# Altium footprint library PN-13101.PcbLib: 1 footprints
Each footprint in its own frame and in the unit in brackets; x right, y up, seen from the top. Pads: shape width x height; smd on the part's side, far side on the other; paste and mask are expansions set on the pad; w line width, h text height; cw(c..) or ccw(c..) is an arc to the next point about the centre after c.
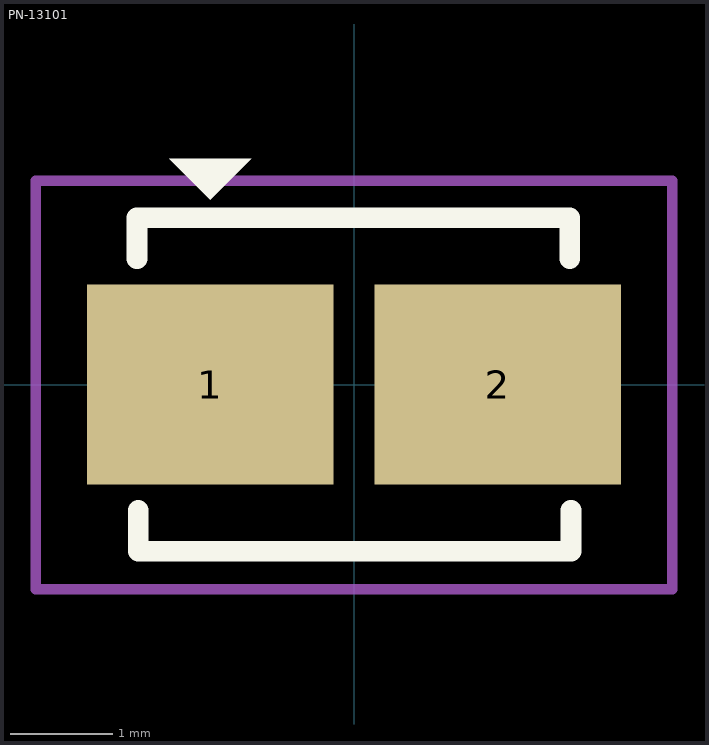
[diagram p0: the footprint, top view; thin cyan lines are the x and y axes]

## PN-13101 [mm]
height 6.35
pads (2):
  rect 2.4x1.95 smd paste-0.975 mask+0.125: 1(-1.4,0) 2(1.4,0)
Top Overlay:
  region: -1.8,2.2 -1,2.2 -1.4,1.8
  lines w0.2: -2.114,1.225 -2.114,1.625 2.1,1.625 2.1,1.225 ; -2.1,-1.225 -2.1,-1.625 2.114,-1.625 2.114,-1.225
Top Paste:
  rectangle: -1.86,-0.675 -0.2,0.675
  rectangle: 0.2,-0.675 1.86,0.675
Top Courtyard:
  lines w0.1: -3.1,-1.992 -3.1,1.988 3.1,1.988 3.1,-1.992 -1.541,-1.992 -3.1,-1.992
3D body: height 6.35, standoff 0, extent -1.94,-1.49 1.94,1.49